# Altium schematic symbol library Meter.Schlib: 1 symbol
Pins are listed as number, name and electrical type; pins without a type are passive.

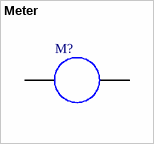
[diagram p0: symbol Meter]

## Meter
designator M?
Indicating Instrument
pins: 1, 2